# Altium schematic symbol library MF_Switches.SCHLIB: 2 symbols
Pins are listed as number, name and electrical type; pins without a type are passive.

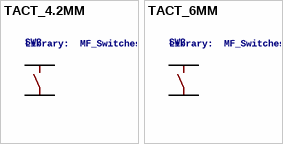
[diagram p0: symbols TACT_4.2MM to TACT_6MM]

## TACT_4.2MM
designator SW?, comment Library:  MF_Switches Description: Device for Tact Switches. Manufacture part number (MFG#) can be added via Attributes.
HOUSEPART: YES; MPN: MF-SW-TACT-4.2MM; GateName_1: G$1; SymbolName_1: TACTSW; DeviceName: _4.2MM; POPULATE: 1; LibraryName: MF_Switches; DeviceSetName: TACT; URL: https://factory.macrofab.com/part/MF-SW-TACT-4.2MM
footprint TACT4.2MM
pins: P$1, P$2, P$3, P$4

## TACT_6MM
designator SW?, comment Library:  MF_Switches Description: Device for Tact Switches. Manufacture part number (MFG#) can be added via Attributes.
HOUSEPART: YES; MPN: MF-SW-TACT-6MM; GateName_1: G$1; SymbolName_1: TACTSW; DeviceName: _6MM; POPULATE: 1; LibraryName: MF_Switches; DeviceSetName: TACT; URL: https://factory.macrofab.com/part/MF-SW-TACT-6MM
footprint TACT6MM
pins: P$1, P$2, P$3, P$4